# Altium schematic symbol library FBEAD.SchLib: 12 symbols
Pins are listed as number, name and electrical type; pins without a type are passive.

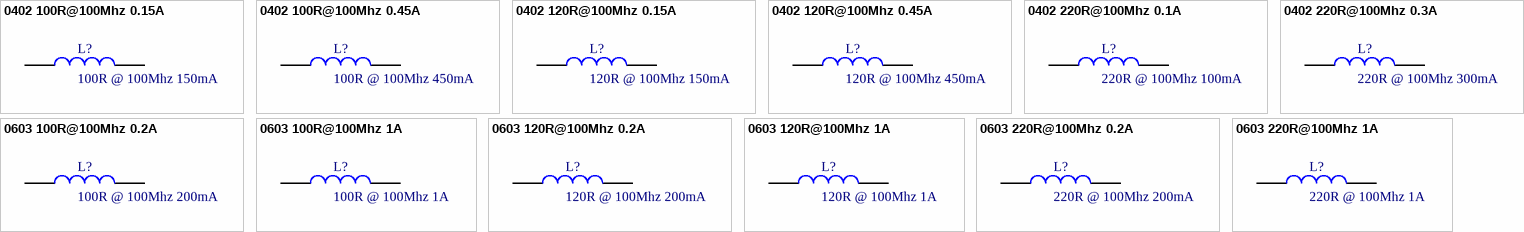
[diagram p0: symbols 0402 100R@100Mhz 0.15A to 0603 220R@100Mhz 1A]

## 0402 100R@100Mhz 0.15A
designator L?, comment 100R @ 100Mhz 150mA
Ferrite Bead; Notepad: *; Package: 0402; Supplier: LC; SuppliersPartNumber: C139138
footprint 0402_L
pins: 1, 2

## 0402 100R@100Mhz 0.45A
designator L?, comment 100R @ 100Mhz 450mA
Ferrite Bead; Notepad: *; Package: 0402; Supplier: LC; SuppliersPartNumber: C124089
footprint 0402_L
pins: 1, 2

## 0402 120R@100Mhz 0.15A
designator L?, comment 120R @ 100Mhz 150mA
Ferrite Bead; Notepad: *; Package: 0402; Supplier: LC; SuppliersPartNumber: C92616
footprint 0402_L
pins: 1, 2

## 0402 120R@100Mhz 0.45A
designator L?, comment 120R @ 100Mhz 450mA
Ferrite Bead; Notepad: *; Package: 0402; Supplier: LC; SuppliersPartNumber: C124088
footprint 0402_L
pins: 1, 2

## 0402 220R@100Mhz 0.1A
designator L?, comment 220R @ 100Mhz 100mA
Ferrite Bead; Notepad: *; Package: 0402; Supplier: LC; SuppliersPartNumber: C92617
footprint 0402_L
pins: 1, 2

## 0402 220R@100Mhz 0.3A
designator L?, comment 220R @ 100Mhz 300mA
Ferrite Bead; Notepad: *; Package: 0402; Supplier: LC; SuppliersPartNumber: C124087
footprint 0402_L
pins: 1, 2

## 0603 100R@100Mhz 0.2A
designator L?, comment 100R @ 100Mhz 200mA
Ferrite Bead; Notepad: *; Package: 0603; Supplier: LC; SuppliersPartNumber: C98498
footprint 0603_L
pins: 1, 2

## 0603 100R@100Mhz 1A
designator L?, comment 100R @ 100Mhz 1A
Ferrite Bead; Notepad: *; Package: 0603; Supplier: LC; SuppliersPartNumber: C64181
footprint 0603_L
pins: 1, 2

## 0603 120R@100Mhz 0.2A
designator L?, comment 120R @ 100Mhz 200mA
Ferrite Bead; Notepad: *; Package: 0603; Supplier: LC; SuppliersPartNumber: C50843
footprint 0603_L
pins: 1, 2

## 0603 120R@100Mhz 1A
designator L?, comment 120R @ 100Mhz 1A
Ferrite Bead; Notepad: *; Package: 0603; Supplier: LC; SuppliersPartNumber: C139175
footprint 0603_L
pins: 1, 2

## 0603 220R@100Mhz 0.2A
designator L?, comment 220R @ 100Mhz 200mA
Ferrite Bead; Notepad: *; Package: 0603; Supplier: LC; SuppliersPartNumber: C92619
footprint 0603_L
pins: 1, 2

## 0603 220R@100Mhz 1A
designator L?, comment 220R @ 100Mhz 1A
Ferrite Bead; Notepad: *; Package: 0603; Supplier: LC; SuppliersPartNumber: C139177
footprint 0603_L
pins: 1, 2